# Altium footprint library L_DO3316P.PcbLib: 1 footprints
Each footprint in its own frame and in the unit in brackets; x right, y up, seen from the top. Pads: shape width x height; smd on the part's side, far side on the other; paste and mask are expansions set on the pad; w line width, h text height; cw(c..) or ccw(c..) is an arc to the next point about the centre after c.
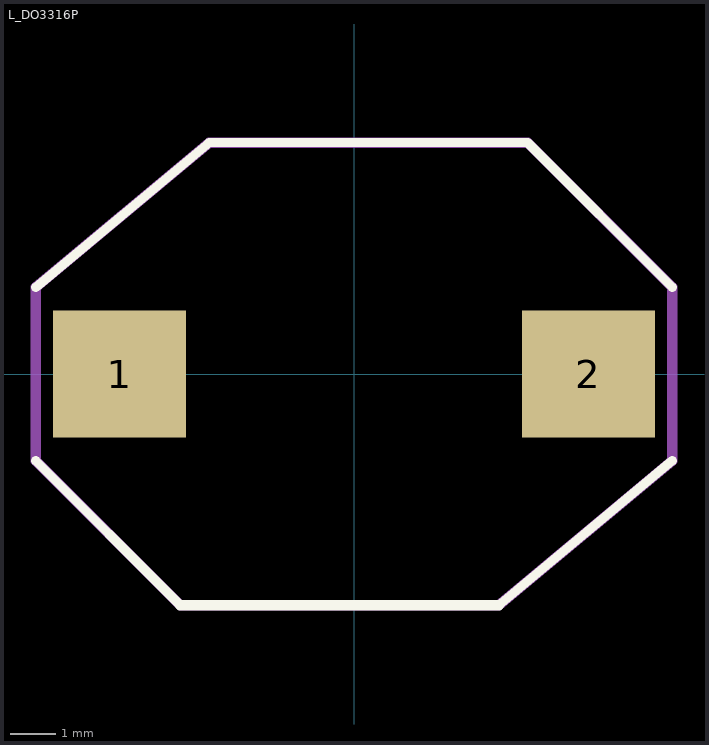
[diagram p0: the footprint, top view; thin cyan lines are the x and y axes]

## L_DO3316P [mil] "Coilcraft DO3316P Power Inductors"
height 205
pads (2):
  rect 115x110 smd: 1(-202.5,0) 2(202.5,0)
Top Overlay:
  lines w8: -275,-75 -150,-200 ; -275,75 -125,200 150,200 275,75 ; 125,-200 275,-75
  lines w9: -150,-200 125,-200
Mechanical 1:
  lines w9: -275,-75 -150,-200 125,-200 275,-75 275,75 150,200 -125,200 -275,75 -275,-75
3D body: height 203.15, standoff -1.97, extent -243.56,-185.03 243.56,185.05